# EAGLE library part 1241050-5 (library con-amp)
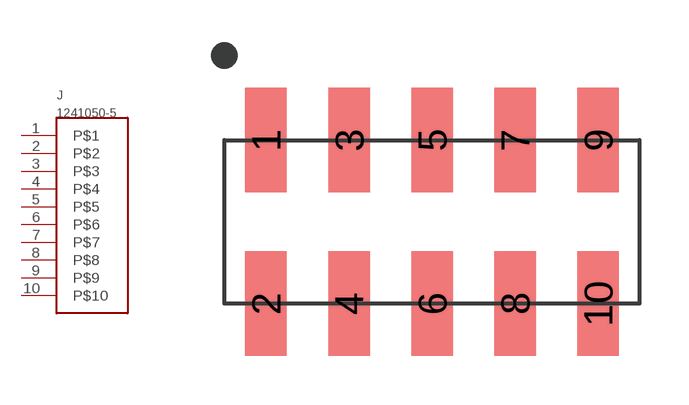
[diagram p0: symbol with the pads of 2.54/2X5; footprint 2.54/2X5]

Designator prefix J

## 1241050-5  [2.54/2X5]
1  P$1
2  P$2
3  P$3
4  P$4
5  P$5
6  P$6
7  P$7
8  P$8
9  P$9
10  P$10

## Footprint 2.54/2X5 (pad centres in mm)
smd 1.27 x 3.2: 1 -5.08,2.5; 2 -5.08,-2.5; 3 -2.54,2.5; 4 -2.54,-2.5; 5 0,2.5; 6 0,-2.5; 7 2.54,2.5; 8 2.54,-2.5; 9 5.08,2.5; 10 5.08,-2.5